# Altium footprint library F4.PcbLib: 1 footprints
Each footprint in its own frame and in the unit in brackets; x right, y up, seen from the top. Pads: shape width x height; smd on the part's side, far side on the other; paste and mask are expansions set on the pad; w line width, h text height; cw(c..) or ccw(c..) is an arc to the next point about the centre after c.
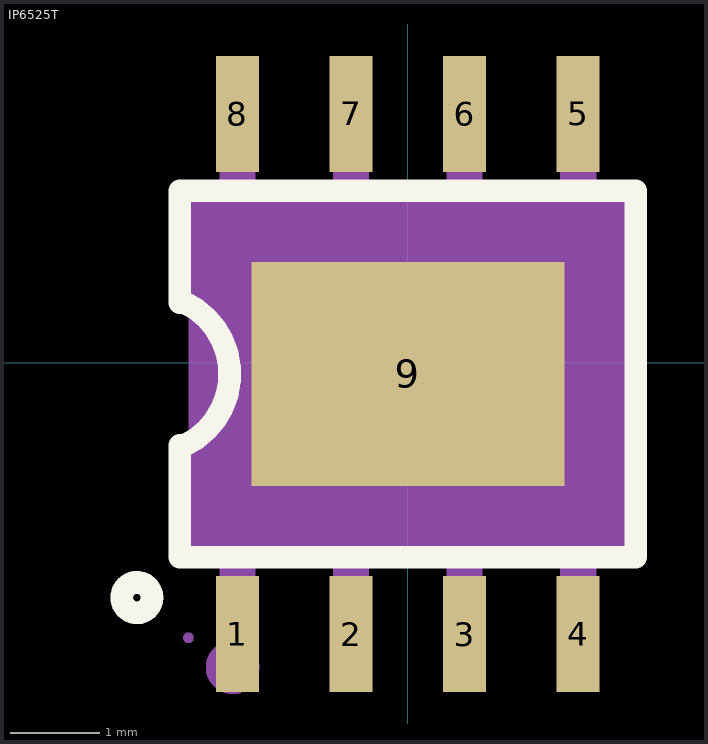
[diagram p0: the footprint, top view; thin cyan lines are the x and y axes]

## IP6525T [mm]
pads (9):
  rect 0.48x1.3 smd: 1(-1.905,-3.035) 2(-0.635,-3.035) 3(0.635,-3.035) 4(1.905,-3.035) 5(1.905,2.781) 6(0.635,2.781) 7(-0.635,2.781) 8(-1.905,2.781)
  rect 3.5x2.5 smd: 9(0,-0.127)
Top Overlay:
  circle w0.254: c-3.03,-2.627 r0.17
  lines w0.254: -2.55,-0.927 -2.55,-2.177 2.55,-2.177 2.55,1.923 -2.55,1.923 -2.55,0.673 ; -2.5,-0.927 ccw(c-2.875,-0.127) -2.5,0.673
Mechanical 4:
  region: -2.45,1.823 2.45,1.823 2.45,-2.077 -2.45,-2.077
Mechanical 5:
  region: 1.705,-3.077 1.705,-2.427 2.105,-2.427 2.105,-3.077
  pour cut-out: 1.705,-2.437 1.705,-2.067 2.105,-2.067 2.105,-2.437
  region: 0.435,-3.077 0.435,-2.427 0.835,-2.427 0.835,-3.077
  pour cut-out: 0.435,-2.437 0.435,-2.067 0.835,-2.067 0.835,-2.437
  region: -0.835,-3.077 -0.835,-2.427 -0.435,-2.427 -0.435,-3.077
  pour cut-out: -0.835,-2.437 -0.835,-2.067 -0.435,-2.067 -0.435,-2.437
  region: -2.105,-3.077 -2.105,-2.427 -1.705,-2.427 -1.705,-3.077
  pour cut-out: -2.105,-2.437 -2.105,-2.067 -1.705,-2.067 -1.705,-2.437
  region: 1.705,2.173 1.705,2.823 2.105,2.823 2.105,2.173
  pour cut-out: 1.705,1.813 1.705,2.183 2.105,2.183 2.105,1.813
  region: 0.435,2.173 0.435,2.823 0.835,2.823 0.835,2.173
  pour cut-out: 0.435,1.813 0.435,2.183 0.835,2.183 0.835,1.813
  region: -0.835,2.173 -0.835,2.823 -0.435,2.823 -0.435,2.173
  pour cut-out: -0.835,1.813 -0.835,2.183 -0.435,2.183 -0.435,1.813
  region: -2.105,2.173 -2.105,2.823 -1.705,2.823 -1.705,2.173
  pour cut-out: -2.105,1.813 -2.105,2.183 -1.705,2.183 -1.705,1.813
  region: 1.65,-1.267 -1.65,-1.267 -1.65,1.013 1.65,1.013
Mechanical 6:
  circle w0.06: c-2.454,-3.077 r0.03
Mechanical 15:
  circle w0.3: c-1.96,-3.407 r0.15